# EAGLE library part IMH3A (library MStar-WLAN)
https://www.mouser.com/ProductDetail/755-IMH3AT110
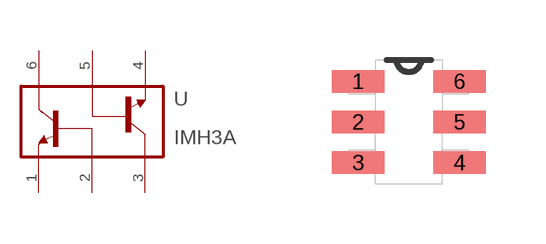
[diagram p2: symbol with the pads of TSOP6; footprint TSOP6]

Designator prefix U

## IMH3ATSOP6  [TSOP6]
1  Q1E
2  Q1B
3  Q2C
4  Q2E
5  Q2B
6  Q1C

## Footprint TSOP6 (pad centres in mm)
smd 1.321 x 0.559: 1 -1.27,1.016; 2 -1.27,0; 3 -1.27,-1.016; 4 1.27,-1.016; 5 1.27,0; 6 1.27,1.016